# EAGLE library part 1X10 (library headers)
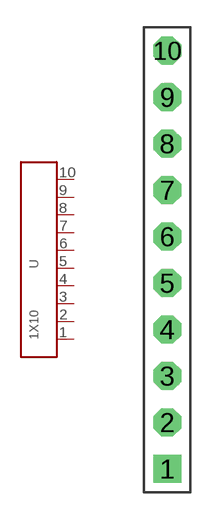
[diagram p1: symbol with the pads of DIP0.1-1X10; footprint DIP0.1-1X10]

Designator prefix -

## 1X10 (DIP: 0.1)  [DIP0.1-1X10]
1  1
2  2
3  3
4  4
5  5
6  6
7  7
8  8
9  9
10  10

## Footprint DIP0.1-1X10 (pad centres in mm)
drill 1.016 square: 1 0,-11.43
drill 1.016 octagon: 2 0,-8.89; 3 0,-6.35; 4 0,-3.81; 5 0,-1.27; 6 0,1.27; 7 0,3.81; 8 0,6.35; 9 0,8.89; 10 0,11.43